# EAGLE library part CONNECTOR-6_?_* (library LM555-Jessica-Ly)
6 Pin Connector
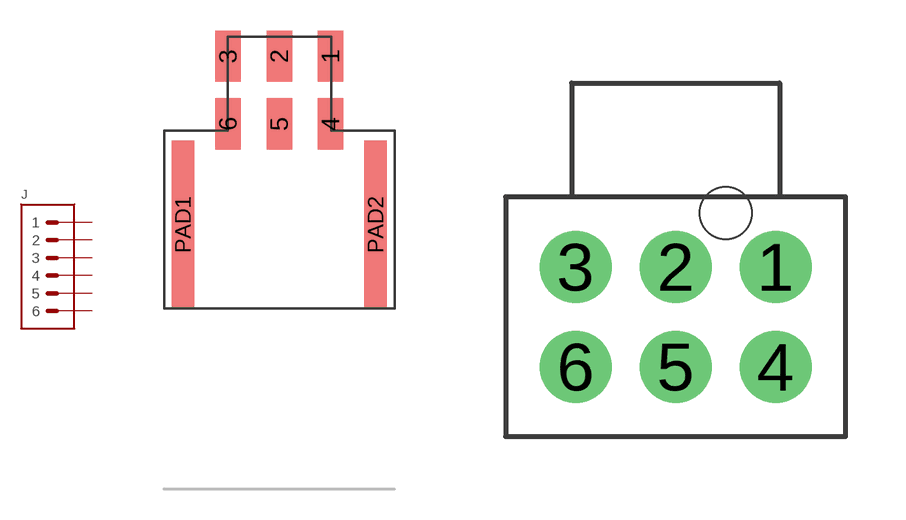
[diagram p10: symbol with the pads of MOLEX_NANOFIT_SMD_RIGHTANGLE_06; footprints MOLEX_NANOFIT_SMD_RIGHTANGLE_06, MOLEX_NANOFIT_PTH_06]

Designator prefix J

## CONNECTOR-6_NF_S_RA_BLACK (DKPN: 1054051306-ND; MANUFACTURER: Molex; MOPN: 538-105405-1306; MPN: 105405-1306)  [MOLEX_NANOFIT_SMD_RIGHTANGLE_06]
1  1  pas
2  2  pas
3  3  pas
4  4  pas
5  5  pas
6  6  pas

## CONNECTOR-6_NF_T_V_BLACK (DKPN: WM15062-ND; MANUFACTURER: Molex; MOPN: 538-105310-1306; MPN: 105310-1306)  [MOLEX_NANOFIT_PTH_06]
Pads as for MOLEX_NANOFIT_SMD_RIGHTANGLE_06

## CONNECTOR-6_μF_S_RA_ (DKPN: WM1833CT-ND; MANUFACTURER: Molex; MOPN: 538-43045-0611; MPN: 0430450611)  [MOLEX_MICROFIT_SMD_RIGHTANGLE_06_DUAL]
Pads as for MOLEX_NANOFIT_SMD_RIGHTANGLE_06

## CONNECTOR-6_μF_T_V_BLACK (DKPN: WM1797-ND; MANUFACTURER: Molex; MOPN: 538-43045-0614; MPN: 430450614)  [MOLEX_MICROFIT_PTH_VERTICAL_06_DUAL]
Pads as for MOLEX_NANOFIT_SMD_RIGHTANGLE_06

## Footprint MOLEX_NANOFIT_SMD_RIGHTANGLE_06 (pad centres in mm)
6 Pin Nano-Fit Vertical Header, PCB Mount, Dual Row Part <https://www.molex.com/molex/products/part-detail/pcb_headers/1054051206> Footprint <https://www.molex.com/pdm_docs/sd/1054051206_sd.pdf>
smd 1.24 x 2.5: 1 2.5,1.65; 2 0,1.65; 3 -2.5,1.65; 4 2.5,-1.65; 5 0,-1.65; 6 -2.5,-1.65
smd 1.1 x 8.2: PAD1 -4.7,-6.58; PAD2 4.7,-6.58

## Footprint MOLEX_NANOFIT_PTH_06 (pad centres in mm)
6 Pin Nano-Fit™ Vertical Header, Through Hole, Dual Row Part <https://www.molex.com/molex/products/part-detail/pcb_headers/1053101206> Footprint <https://www.molex.com/pdm_docs/sd/1053101206_sd.pdf>
drill 1.2: 1 2.5,0; 2 0,0; 3 -2.5,0; 4 2.5,-2.5; 5 0,-2.5; 6 -2.5,-2.5
hole 1.3 at 1.25,1.34

## Footprint MOLEX_MICROFIT_SMD_RIGHTANGLE_06_DUAL (pad centres in mm)
6 Pin Micro-Fit Right Angle Header, SMD, Dual Row Part <https://www.molex.com/molex/products/part-detail/pcb_headers/0430450611> Footprint <https://www.molex.com/pdm_docs/sd/430450611_sd.pdf> Plug Size <https://www.molex.com/pdm_docs/sd/430250600_sd.pdf> Solid line must not be visible on PCB if no cutout is desired. Dashed line is edge of mated connector.
smd 1.27 x 2.921: 1 3,5.474; 2 0,5.474; 3 -3,5.474; 4 3,10.097; 5 0,10.097; 6 -3,10.097
smd 3.429 x 1.651: PAD1 6.886,0; PAD2 -6.886,0

## Footprint MOLEX_MICROFIT_PTH_VERTICAL_06_DUAL (pad centres in mm)
6 Pin Micro-Fit Vertical Header, Through-Hole, Dual Row Part <https://www.molex.com/molex/products/part-detail/pcb_headers/0430450614> Footprint <https://www.molex.com/pdm_docs/sd/430450614_sd.pdf> Plug Size <https://www.molex.com/pdm_docs/sd/430250600_sd.pdf>
drill 1.067: 1 2.997,-2.997; 2 0,-2.997; 3 -2.997,-2.997; 4 2.997,0; 5 0,0; 6 -2.997,0
hole 1.067 at 5.994,0.94
hole 1.067 at -5.994,0.94